# Altium footprint library photocoupler35V.PcbLib: 1 footprints
Each footprint in its own frame and in the unit in brackets; x right, y up, seen from the top. Pads: shape width x height; smd on the part's side, far side on the other; paste and mask are expansions set on the pad; w line width, h text height; cw(c..) or ccw(c..) is an arc to the next point about the centre after c.
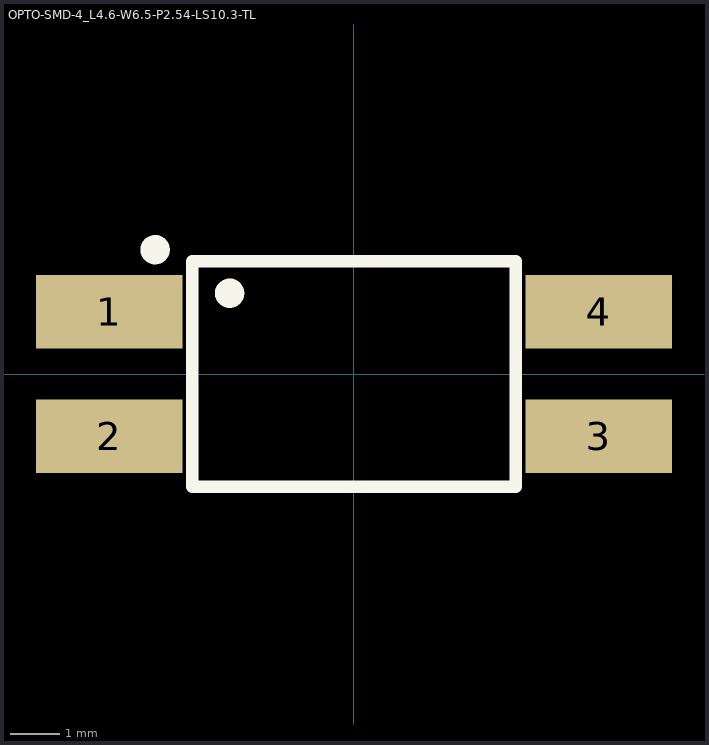
[diagram p0: the footprint, top view; thin cyan lines are the x and y axes]

## OPTO-SMD-4_L4.6-W6.5-P2.54-LS10.3-TL [mm]
pads (4):
  rect 3x1.5 smd: 1(-5,1.27) 2(-5,-1.27) 3(5,-1.27) 4(5,1.27)
Top Overlay:
  circle w0.3: c-4.064,2.54 r0.15
  circle w0.3: c-2.54,1.651 r0.15
  lines w0.254: -3.3,-2.3 3.3,-2.3 3.3,2.3 -3.3,2.3 -3.3,-2.3
Mechanical 15:
  circle w0.6: c-4.572,1.27 r0.3